# EAGLE library part JST_8PIN (library isystems-connectors)
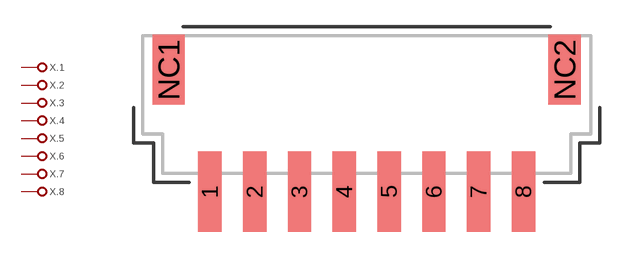
[diagram p2: symbol with the pads of JSTXH8_SMT; footprint JSTXH8_SMT]

Designator prefix X; gates .1=CONX1 .2=CONX1 .3=CONX1 .4=CONX1 .5=CONX1 .6=CONX1 .7=CONX1 .8=CONX1

## JST_8PIN_XH_SMT  [JSTXH8_SMT]
1  .1:P
2  .2:P
3  .3:P
4  .4:P
5  .5:P
6  .6:P
7  .7:P
8  .8:P

## Footprint JSTXH8_SMT (pad centres in mm)
smd 1.3 x 4.5: 1 -8.75,-2.7; 2 -6.25,-2.7; 3 -3.75,-2.7; 4 -1.25,-2.7; 5 1.25,-2.7; 6 3.75,-2.7; 7 6.25,-2.7; 8 8.75,-2.7
smd 1.8 x 3.9: NC1 -11.05,4.1; NC2 11.05,4.1